# EAGLE library part WIRL-COMB_2617011025000 (library WE_WIRL_Rev13.0)
Stephano-I - Combined 2.4 GHz Wi-Fi and Bluetooth® LE 5.0 Module WIRL-COMB 2.4 GHz Wi-Fi and Bluetooth® LE 5.0 Module Details see: https://we-online.de/katalog/en/article/2617011025000/
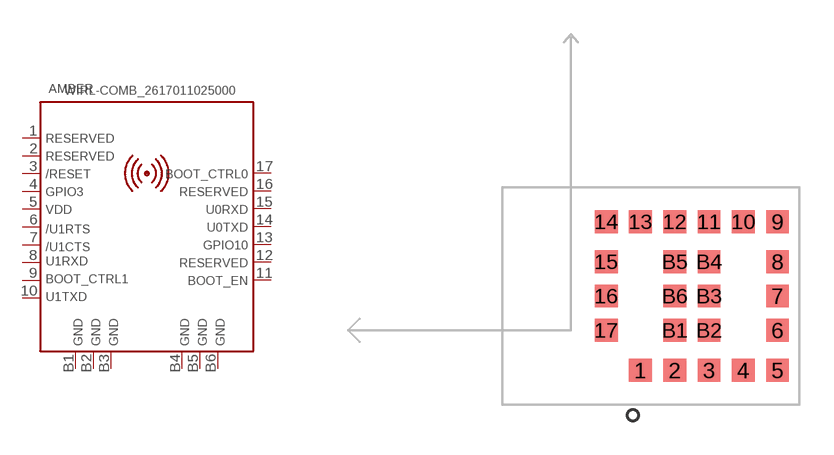
[diagram p41: symbol with the pads of WE-FP-7; footprint WE-FP-7]

Designator prefix AMBER

## WIRL-COMB_2617011025000 (HEIGHT: 2mm; MANUFACTURER: Würth Elektronik; NR: 2617011025000)  [WE-FP-7]
1  1
2  2
3  3
4  4
5  5
6  6
7  7
8  8
9  9
10  10
11  11
12  12
13  13
14  14
15  15
16  16
17  17
B1  B1
B2  B2
B3  B3
B4  B4
B5  B5
B6  B6

## Footprint WE-FP-7 (pad centres in mm)
smd 1 x 1: 1 -0.7,-3.25; 2 0.8,-3.25; 3 2.3,-3.25; 4 3.8,-3.25; 5 5.3,-3.25; 6 5.3,-1.5; 7 5.3,0; 8 5.3,1.5; 9 5.3,3.25; 10 3.8,3.25; 11 2.3,3.25; 12 0.8,3.25; 13 -0.7,3.25; 14 -2.2,3.25; 15 -2.2,1.5; 16 -2.2,0; 17 -2.2,-1.5; B1 0.8,-1.5; B2 2.3,-1.5; B3 2.3,0; B4 2.3,1.5; B5 0.8,1.5; B6 0.8,0